# Altium footprint library Connector_Harting.PcbLib: 33 footprints (part 3 of 3)
Each footprint in its own frame and in the unit in brackets; x right, y up, seen from the top. Pads: shape width x height; smd on the part's side, far side on the other; paste and mask are expansions set on the pad; w line width, h text height; cw(c..) or ccw(c..) is an arc to the next point about the centre after c.
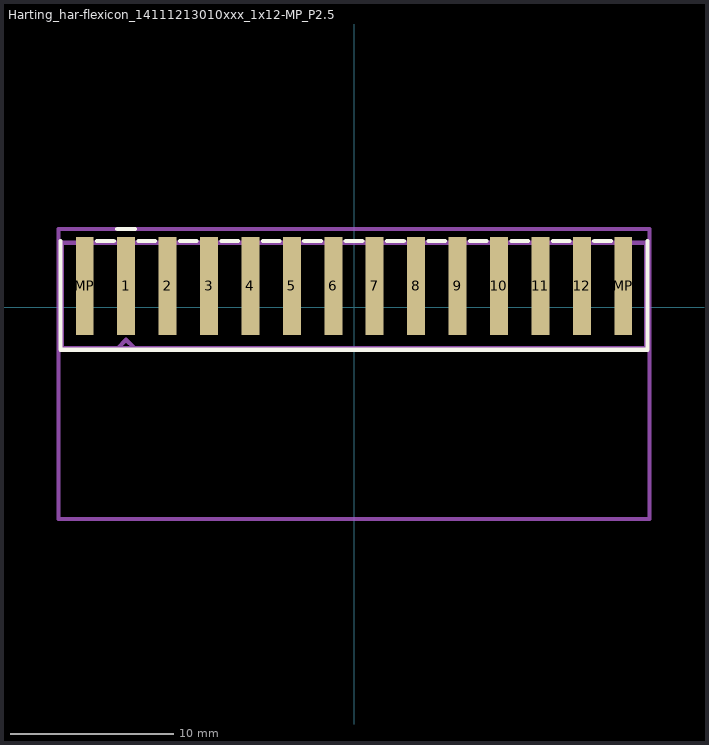
[diagram p2: the footprint, top view; thin cyan lines are the x and y axes]

## Harting_har-flexicon_14111213010xxx_1x12-MP_P2.54mm_Horizontal [mm]
pads (14):
  rect 1.1x6 smd: 1(-13.97,1.3) 2(-11.43,1.3) 3(-8.89,1.3) 4(-6.35,1.3) 5(-3.81,1.3) 6(-1.27,1.3) 7(1.27,1.3) 8(3.81,1.3) 9(6.35,1.3) 10(8.89,1.3) 11(11.43,1.3) 12(13.97,1.3) MP(-16.51,1.3) MP(16.51,1.3)
F.SilkS:
  lines w0.254: -18.005,4.06 -18.005,-2.61 18.005,-2.61 18.005,4.06 ; -15.748,4.06 -14.732,4.06 ; -14.52,4.8 -13.42,4.8 ; -13.208,4.06 -12.192,4.06 ; -10.668,4.06 -9.652,4.06 ; -8.128,4.06 -7.112,4.06 ; -5.588,4.06 -4.572,4.06 ; -3.048,4.06 -2.032,4.06 ; -0.508,4.06 0.508,4.06 ; 2.032,4.06 3.048,4.06 ; 4.572,4.06 5.588,4.06 ; 7.112,4.06 8.128,4.06 ; 9.652,4.06 10.668,4.06 ; 12.192,4.06 13.208,4.06 ; 14.732,4.06 15.748,4.06
Top Assembly:
  lines w0.254: -14.47,-2.5 -13.97,-2 -13.47,-2.5 ; -17.895,-2.5 17.895,-2.5 17.895,3.95 -17.895,3.95 -17.895,-2.5
  text "'.Designator'" at -4.047,0.46 h1
Top Courtyard:
  lines w0.254: -18.12,-13 18.12,-13 18.12,4.8 -18.12,4.8 -18.12,-13
Top Designator:
  text ".Designator" at -7.618,-4.608 h1.52